# Altium footprint library PCB1.PcbLib: 21 footprints (part 1 of 2)
Each footprint in its own frame and in the unit in brackets; x right, y up, seen from the top. Pads: shape width x height; smd on the part's side, far side on the other; paste and mask are expansions set on the pad; w line width, h text height; cw(c..) or ccw(c..) is an arc to the next point about the centre after c.
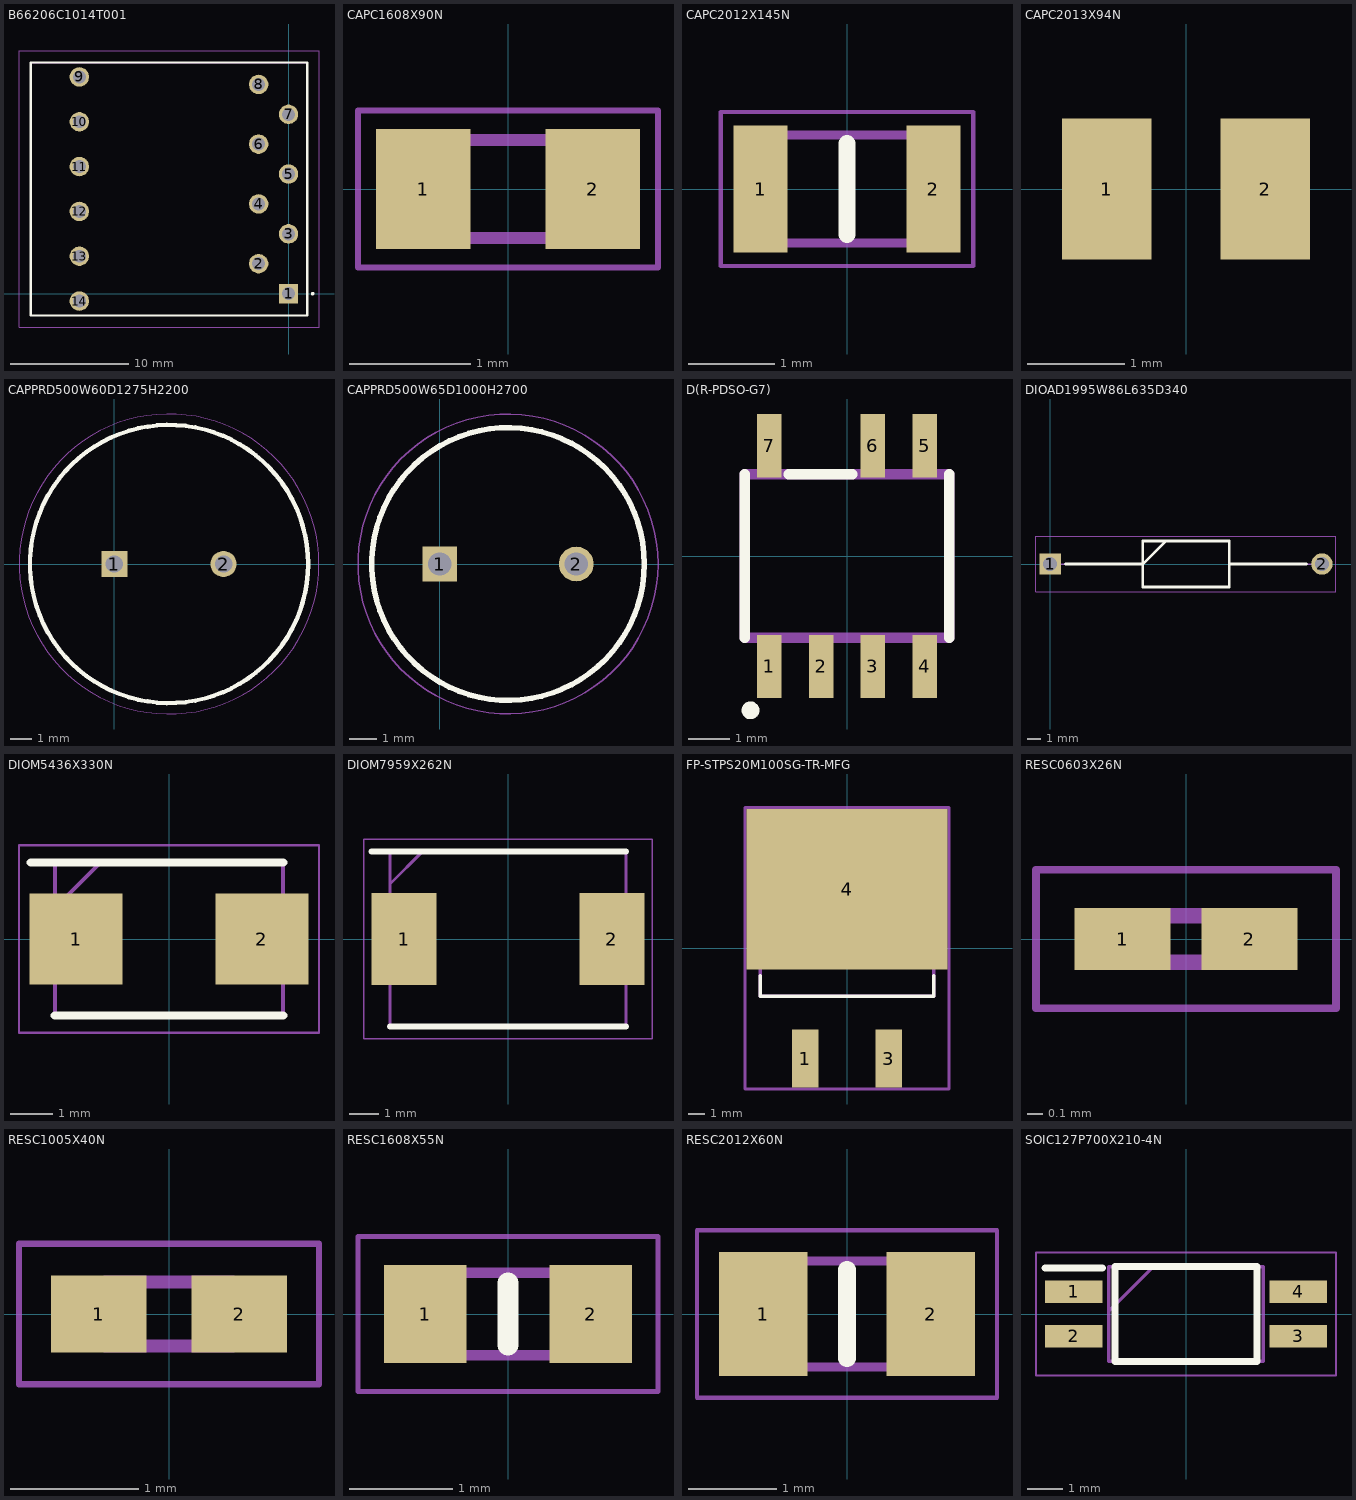
[diagram p0: the footprints below, top view; thin cyan lines are the x and y axes]

## B66206C1014T001 [mm]
pads (14):
  rect 1.65x1.65 hole 1.1: 1(0,0)
  round 1.65 hole 1.1: 2(-2.54,2.54) 3(0,5.08) 4(-2.54,7.62) 5(0,10.16) 6(-2.54,12.7) 7(0,15.24) 8(-2.54,17.78) 9(-17.78,18.415) 10(-17.78,14.605) 11(-17.78,10.795) 12(-17.78,6.985) 13(-17.78,3.175) 14(-17.78,-0.635)
Top Overlay:
  lines w0.2: 2,0 cw(c2.05,0) 2.1,0 ; 2,0 ccw(c2.05,0) 2.1,0 ; 2,0 cw(c2.05,0) 2.1,0 ; -21.91,-1.86 1.59,-1.86 1.59,19.64 -21.91,19.64 -21.91,-1.86
Mechanical 13:
  lines w0.1: -21.91,-1.86 1.59,-1.86 1.59,19.64 -21.91,19.64 -21.91,-1.86
Mechanical 15:
  lines w0.1: -22.91,-2.86 2.59,-2.86 2.59,20.64 -22.91,20.64 -22.91,-2.86
3D body "B66206C1014T001.stp": height 10.75, standoff -10.75, extent -21.717,0.925 1.623,18.125

## CAPC1608X90N [mm]
pads (2):
  rect 0.78x0.99 smd: 1(-0.7,0) 2(0.7,0)
Mechanical 13:
  lines w0.1: -0.8,-0.405 -0.8,0.405 0.8,0.405 0.8,-0.405 -0.8,-0.405
Mechanical 15:
  lines w0.05: -1.24,-0.65 -1.24,0.65 1.24,0.65 1.24,-0.65 -1.24,-0.65
3D body "06031C851JAT2A.stp": height 0.9, standoff 0, extent -0.8,-0.405 0.8,0.405

## CAPC2012X145N [mm]
pads (2):
  rect 0.62x1.47 smd: 1(-1,0) 2(1,0)
Top Overlay:
  lines w0.2: 0,-0.525 0,0.525
Mechanical 13:
  lines w0.1: -1,-0.625 -1,0.625 1,0.625 1,-0.625 -1,-0.625
Mechanical 15:
  lines w0.05: -1.46,-0.89 -1.46,0.89 1.46,0.89 1.46,-0.89 -1.46,-0.89
3D body "CGA4J1X7R1V475K125AC.stp": height 1.45, standoff 0, extent -1,-0.625 1,0.625

## CAPC2013X94N [mil]
pads (2):
  rect 36x57 smd: 1(-32,0) 2(32,0)
3D body "08053C104JAZ2A.stp": height 37.01, standoff 0, extent -39.57,-24.61 39.57,24.61

## CAPPRD500W60D1275H2200 [mm]
pads (2):
  rect 1.2x1.2 hole 0.8: 1(0,0)
  round 1.2 hole 0.8: 2(5,0)
Top Overlay:
  circle w0.2: c2.5,0 r6.375
Mechanical 13:
  circle w0.1: c2.5,0 r6.375
Mechanical 15:
  circle w0.05: c2.5,0 r6.875
3D body "400PK22MEFC12.5X20.stp": height 22, standoff -10, extent -4,-6.5 9,6.5

## CAPPRD500W65D1000H2700 [mm]
pads (2):
  rect 1.275x1.275 hole 0.85: 1(0,0)
  round 1.275 hole 0.85: 2(5,0)
Top Overlay:
  circle w0.2: c2.5,0 r5
Mechanical 13:
  circle w0.1: c2.5,0 r5
Mechanical 15:
  circle w0.05: c2.5,0 r5.5
3D body "EEU-FC1C102.stp": height 27, standoff -10, extent -2.75,-5.246 7.75,5.246

## D(R-PDSO-G7) [mm]
pads (7):
  rect 0.6x1.55 smd: 1(-1.905,-2.7) 2(-0.635,-2.7) 3(0.635,-2.7) 4(1.905,-2.7) 5(1.905,2.7) 6(0.635,2.7) 7(-1.905,2.7)
Top Overlay:
  circle w0.254: c-2.359,-3.772 r0.09
  lines w0.254: -2.5,-2 -2.5,2 ; -1.424,2 0.134,2 ; 2.5,-2 2.5,2
Mechanical 13:
  lines w0.254: -2.5,-2 -2.5,2 2.5,2 2.5,-2 -2.5,-2
3D body "UCC28740DR.stp": height 1.63, standoff 0, extent -2.451,-3.081 2.451,2.941

## DIOAD1995W86L635D340 [mm]
pads (2):
  rect 1.575x1.575 hole 1.05: 1(0,0)
  round 1.575 hole 1.05: 2(20,0)
Top Overlay:
  lines w0.2: 1.138,0 6.825,0 8.525,1.7 ; 13.175,0 18.862,0 ; 6.825,-1.7 13.175,-1.7 13.175,1.7 6.825,1.7 6.825,-1.7
Mechanical 13:
  lines w0.1: 0,0 6.825,0 8.525,1.7 ; 13.175,0 20,0 ; 6.825,-1.7 13.175,-1.7 13.175,1.7 6.825,1.7 6.825,-1.7
Mechanical 15:
  lines w0.05: -1.038,-2.05 21.037,-2.05 21.037,2.05 -1.038,2.05 -1.038,-2.05
3D body "P6KE110A-E3_54.stp": height 3.5, standoff -3.5, extent -0.427,-1.75 20.38,1.75

## DIOM5436X330N [mm]
pads (2):
  rect 2.2x2.15 smd: 1(-2.2,0) 2(2.2,0)
Top Overlay:
  lines w0.2: -3.275,1.81 2.7,1.81 ; -2.7,-1.81 2.7,-1.81
Mechanical 13:
  lines w0.1: -2.7,0.735 -1.625,1.81 ; -2.7,-1.81 2.7,-1.81 2.7,1.81 -2.7,1.81 -2.7,-1.81
Mechanical 15:
  lines w0.05: -3.55,-2.22 3.55,-2.22 3.55,2.22 -3.55,2.22 -3.55,-2.22
3D body "UFS180Je3_TR13.stp": height 3.3, standoff 0, extent -2.7,-1.81 2.7,1.81

## DIOM7959X262N [mm]
pads (2):
  rect 2.2x3.1 smd: 1(-3.5,0) 2(3.5,0)
Top Overlay:
  lines w0.2: -4.6,2.952 3.97,2.952 ; -3.97,-2.952 3.97,-2.952
Mechanical 13:
  lines w0.1: -3.97,1.852 -2.87,2.952 ; -3.97,-2.952 3.97,-2.952 3.97,2.952 -3.97,2.952 -3.97,-2.952
Mechanical 15:
  lines w0.05: -4.85,-3.36 4.85,-3.36 4.85,3.36 -4.85,3.36 -4.85,-3.36
3D body "CD214C-F3600.stp": height 2.31, standoff 0, extent -3.97,-2.953 3.97,2.953

## FP-STPS20M100SG-TR-MFG [mm]
pads (3):
  rect 1.6x3.5 smd paste+0 mask+0: 1(-2.54,-6.7) 3(2.54,-6.7)
  rect 12.2x9.75 smd paste+0 mask+0: 4(0,3.575)
Top Overlay:
  lines w0.2: -5.275,-1.675 -5.275,-2.91 5.275,-2.91 5.275,-1.675
Top 3D Body:
  lines w0.2: -5.275,-2.91 5.275,-2.91 5.275,6.44 -5.275,6.44 -5.275,-2.91
Top Courtyard:
  lines w0.2: -6.2,-8.55 6.2,-8.55 6.2,8.55 -6.2,8.55 -6.2,-8.55
Top Assembly:
  lines w0.2: -6.2,-8.55 6.2,-8.55 6.2,8.55 -6.2,8.55 -6.2,-8.55
  text ".Designator" at 0,-0.001 h1
Top Component Center:
  lines w0.1: -0.5,0 0.5,0 ; 0,-0.5 0,0.5
3D body "Diode_STMicroelectronics_STPS20M100SG-TR_eec.STEP": height 0.25, standoff 0, extent -6.2,-8.55 6.2,8.55

## RESC0603X26N [mm]
pads (2):
  rect 0.625x0.4 smd: 1(-0.412,0) 2(0.412,0)
Mechanical 13:
  lines w0.1: -0.3,-0.15 -0.3,0.15 0.3,0.15 0.3,-0.15 -0.3,-0.15
Mechanical 15:
  lines w0.05: -0.975,-0.45 -0.975,0.45 0.975,0.45 0.975,-0.45 -0.975,-0.45
3D body "RC0201FR-07205KL.stp": height 0.26, standoff 0, extent -0.3,-0.15 0.3,0.15

## RESC1005X40N [mm]
pads (2):
  rect 0.75x0.6 smd: 1(-0.55,0) 2(0.55,0)
Mechanical 13:
  lines w0.1: -0.5,-0.25 0.5,-0.25 0.5,0.25 -0.5,0.25 -0.5,-0.25
Mechanical 15:
  lines w0.05: -1.175,-0.55 1.175,-0.55 1.175,0.55 -1.175,0.55 -1.175,-0.55
3D body "CRCW0402118KFKED.stp": height 0.4, standoff 0, extent -0.5,-0.25 0.5,0.25

## RESC1608X55N [mm]
pads (2):
  rect 0.8x0.95 smd: 1(-0.8,0) 2(0.8,0)
Top Overlay:
  lines w0.2: 0,-0.3 0,0.3
Mechanical 13:
  lines w0.1: -0.8,-0.4 -0.8,0.4 0.8,0.4 0.8,-0.4 -0.8,-0.4
Mechanical 15:
  lines w0.05: -1.45,-0.75 -1.45,0.75 1.45,0.75 1.45,-0.75 -1.45,-0.75
3D body "RC0603FR-0722RL.stp": height 0.55, standoff 0, extent -0.8,-0.4 0.8,0.4

## RESC2012X60N [mm]
pads (2):
  rect 1x1.4 smd: 1(-0.95,0) 2(0.95,0)
Top Overlay:
  lines w0.2: 0,-0.5 0,0.5
Mechanical 13:
  lines w0.1: -1,-0.6 1,-0.6 1,0.6 -1,0.6 -1,-0.6
Mechanical 15:
  lines w0.05: -1.7,-0.95 1.7,-0.95 1.7,0.95 -1.7,0.95 -1.7,-0.95
3D body "CRM0805-FX-R910ELF.stp": height 0.6, standoff 0, extent -1,-0.6 1,0.6

## SOIC127P700X210-4N [mm]
pads (4):
  rect 1.65x0.65 smd: 1(-3.2,0.635) 2(-3.2,-0.635) 3(3.2,-0.635) 4(3.2,0.635)
Top Overlay:
  lines w0.2: -4.025,1.31 -2.375,1.31 ; -2.025,-1.35 2.025,-1.35 2.025,1.35 -2.025,1.35 -2.025,-1.35
Mechanical 13:
  lines w0.1: -2.2,0.08 -0.93,1.35 ; -2.2,-1.35 2.2,-1.35 2.2,1.35 -2.2,1.35 -2.2,-1.35
Mechanical 15:
  lines w0.05: -4.275,-1.75 4.275,-1.75 4.275,1.75 -4.275,1.75 -4.275,-1.75